# EAGLE library part NHD-C0216CIZ-FSW-FBW-3V3 (library 0_jc-custom-eagle6)
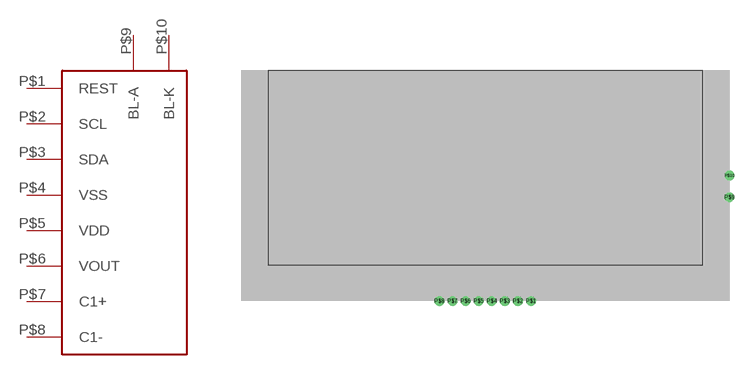
[diagram p26: symbol with the pads of NHD-C0216CIZ-FSW-FBW-3V3; footprint NHD-C0216CIZ-FSW-FBW-3V3]

Designator prefix -

## NHD-C0216CIZ-FSW-FBW-3V3V1  [NHD-C0216CIZ-FSW-FBW-3V3]
P$1  REST
P$2  SCL
P$3  SDA
P$4  VSS
P$5  VDD
P$6  VOUT
P$7  C1+
P$8  C1-
P$9  BL-A
P$10  BL-K

## Footprint NHD-C0216CIZ-FSW-FBW-3V3 (pad centres in mm)
drill 0.6: P$1 5.25,-13.25; P$2 3.75,-13.25; P$3 2.25,-13.25; P$4 0.75,-13.25; P$5 -0.75,-13.25; P$6 -2.25,-13.25; P$7 -3.75,-13.25; P$8 -5.25,-13.25; P$9 28,-1.35; P$10 28,1.15